# Altium footprint library SM_TSOP-6.PcbLib: 1 footprints
Each footprint in its own frame and in the unit in brackets; x right, y up, seen from the top. Pads: shape width x height; smd on the part's side, far side on the other; paste and mask are expansions set on the pad; w line width, h text height; cw(c..) or ccw(c..) is an arc to the next point about the centre after c.
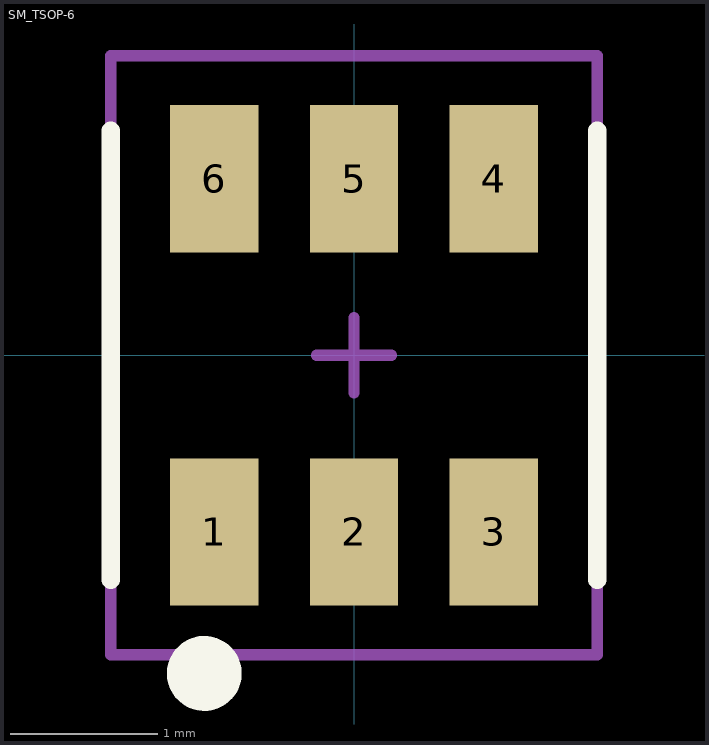
[diagram p0: the footprint, top view; thin cyan lines are the x and y axes]

## SM_TSOP-6 [mm]
pads (6):
  rect 0.599x1 smd: 1(-0.949,-1.199) 2(0,-1.199) 3(0.949,-1.199) 4(0.949,1.199) 5(0,1.199) 6(-0.949,1.199)
Top Overlay:
  circle w0.254: c-1.016,-2.159 r0.127
  lines w0.127: -1.651,-1.524 -1.651,1.524 ; 1.651,-1.524 1.651,1.524
Mechanical 15:
  lines w0.076: -0.254,0 0.254,0 ; 0,-0.254 0,0.254 ; -1.651,-2.032 -1.651,2.032 1.651,2.032 1.651,-2.032 -1.651,-2.032
3D body "User Library-TSOP-6.STEP": height 1, standoff 0, extent -1.5,-1.35 1.5,1.35